# EAGLE library part TCAN334DCNT (library HEXABITZ_ICs)
Description : 3.3-V CAN Transceivers 8-SOT-23 -40 to 125; Parameter : Lifecycle Status : Active, Mounting Style : Surface Mount, Number of Pins : 8, Interface : CAN Max Operating Temperature : 125 °C Max Supply Voltage : 3.6 V Min Operating Temperature : -40 °C Min Supply Voltage : 3 V Octopart Url : https://octopart.com/tcan334dcnt-texas+instruments-70835167?r=sp&s=90JNHpOERMGGNru9w1_R2Q, OctopartID : 5f4f955c32ec8088, REACH SVHC Compliance : No SVHC, RoHS : Non-Compliant,
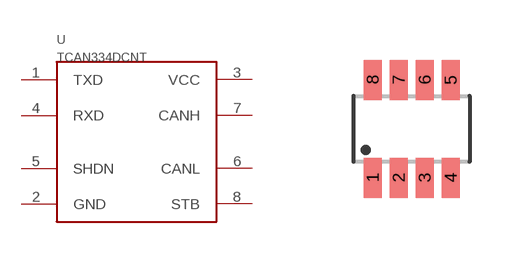
[diagram p2: symbol with the pads of TCAN334DCNT; footprint TCAN334DCNT]

Designator prefix U

## TCAN334DCNT (MFN: Texas Instruments; MPN: TCAN334DCNT; OCTOPART_URL: https://octopart.com/tcan334dcnt-texas+instruments-70835167?r=sp&s=90JNHpOERMGGNru9w1_R2Q)  [TCAN334DCNT]
1  TXD
2  GND
3  VCC
4  RXD
5  SHDN
6  CANL
7  CANH
8  STB

## Footprint TCAN334DCNT (pad centres in mm)
smd 0.45 x 1: 1 -0.975,-1.225; 2 -0.325,-1.225; 3 0.325,-1.225; 4 0.975,-1.225; 5 0.975,1.225; 6 0.325,1.225; 7 -0.325,1.225; 8 -0.975,1.225